# Altium footprint library neurosky.PcbLib: 2 footprints
Each footprint in its own frame and in the unit in brackets; x right, y up, seen from the top. Pads: shape width x height; smd on the part's side, far side on the other; paste and mask are expansions set on the pad; w line width, h text height; cw(c..) or ccw(c..) is an arc to the next point about the centre after c.
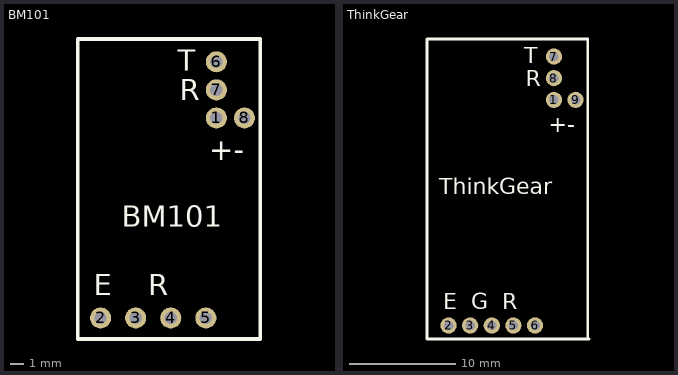
[diagram p0: the footprints below, top view; thin cyan lines are the x and y axes]

## BM101 [mil]
pads (8):
  round 60 hole 35: 1(-49380,-48840) 2(-49710,-49410) 3(-49610,-49410) 4(-49510,-49410) 5(-49410,-49410) 6(-49380,-48680) 7(-49380,-48760) 8(-49300,-48840)
Top Overlay:
  lines w10: -49775,-49470 -49255,-49470 -49255,-48615 -49775,-48615 -49775,-49470
  text "E    R" at -49730,-49345 h60
  text "T" at -49490,-48705 h60
  text "R" at -49485,-48790 h60
  text "+-" at -49400,-48960 h60
  text "BM101" at -49650,-49150 h60

## ThinkGear [mil]
pads (9):
  round 60 hole 35: 1(-49380,-48840) 2(-49770,-49675) 3(-49690,-49675) 4(-49610,-49675) 5(-49530,-49675) 6(-49450,-49675) 7(-49380,-48680) 8(-49380,-48760) 9(-49300,-48840)
Top Overlay:
  lines w10: -49255,-49720 -49255,-48615 -49850,-48615 -49850,-49725 -49250,-49725
  text "T" at -49490,-48705 h60
  text "R" at -49485,-48790 h60
  text "+-" at -49400,-48960 h60
  text "E  G  R" at -49790,-49615 h60
  text "ThinkGear" at -49805,-49190 h60